# EAGLE library part LCD-20X4 (library Eagle3D-Displays)
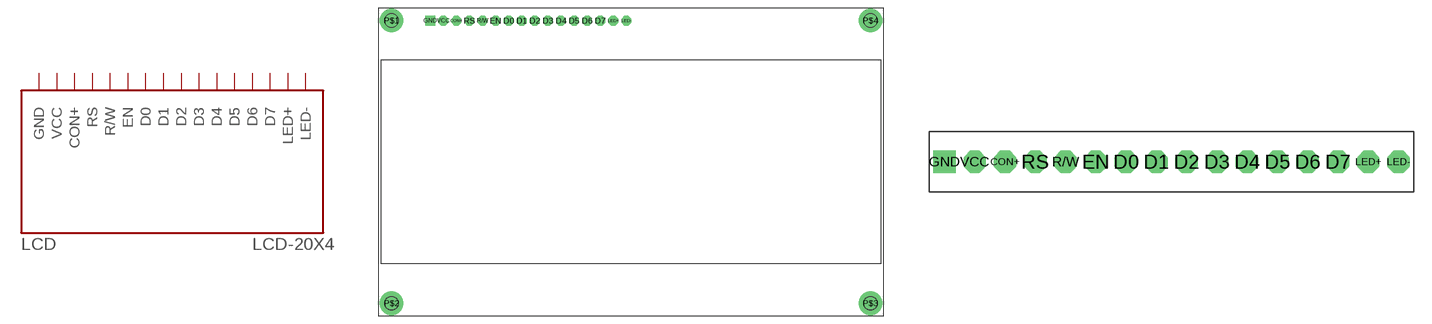
[diagram p2: symbol with the pads of LCD-20X4; footprints LCD-20X4, LCD-PINS]

Designator prefix LCD

## LCD-20X4  [LCD-20X4]
CON+  CON+
D0  D0
D1  D1
D2  D2
D3  D3
D4  D4
D5  D5
D6  D6
D7  D7
EN  EN
GND  GND  pwr
LED+  LED+
LED-  LED-
R/W  R/W
RS  RS
VCC  VCC  pwr

## LCD-20X4-PINS  [LCD-PINS]
Pads as for LCD-20X4

## Footprint LCD-20X4 (pad centres in mm)
drill 0.9 pad 1.88 octagon: CON+ -33.92,27.46; D0 -23.76,27.46; D1 -21.22,27.46; D2 -18.68,27.46; D3 -16.14,27.46; D4 -13.6,27.46; D5 -11.06,27.46; D6 -8.52,27.46; D7 -5.98,27.46; EN -26.3,27.46; LED+ -3.44,27.46; LED- -0.9,27.46; R/W -28.84,27.46; RS -31.38,27.46; VCC -36.46,27.46
drill 0.9 pad 1.88 square: GND -39,27.46
drill 2.438 pad 4.597: P$1 -46.5,27.5; P$2 -46.5,-27.5; P$3 46.5,-27.5; P$4 46.5,27.5

## Footprint LCD-PINS (pad centres in mm)
drill 1.016 pad 1.88 octagon: CON+ -13.97,0; D0 -3.81,0; D1 -1.27,0; D2 1.27,0; D3 3.81,0; D4 6.35,0; D5 8.89,0; D6 11.43,0; D7 13.97,0; EN -6.35,0; LED+ 16.51,0; LED- 19.05,0; R/W -8.89,0; RS -11.43,0; VCC -16.51,0
drill 1.016 pad 1.88 square: GND -19.05,0